# EAGLE library part MXC6255XC (library Pod4)
Price ($) : 1.97 Output Data Typ: Analog/Digital Axis: x, y Accuracy: 819 LSB/g Size (mm): 1.18x1.7 Operating Voltage (V): 2.5-5.5 Operating Current(mA): 1.2 Range (g): 2 Communication: SPI Datasheet: https://www.memsic.com/userfiles/files/Datasheets/Accelerometer-Datasheets/DTOS_MXC6255XC_Rev_E.pdf
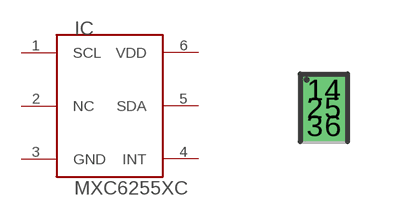
[diagram p0: symbol with the pads of MXC6255XC; footprint MXC6255XC]

Designator prefix IC

## MXC6255XC  [MXC6255XC]
1  SCL
2  NC
3  GND
4  INT
5  SDA
6  VDD

## Footprint MXC6255XC (pad centres in mm)
drill 0.25 pad 0.28 square: 1 -0.225,0.45; 2 -0.225,0; 3 -0.225,-0.45; 4 0.225,0.45; 5 0.225,0; 6 0.225,-0.45